# Altium schematic symbol library Schlib1.SchLib: 15 symbols
Pins are listed as number, name and electrical type; pins without a type are passive.

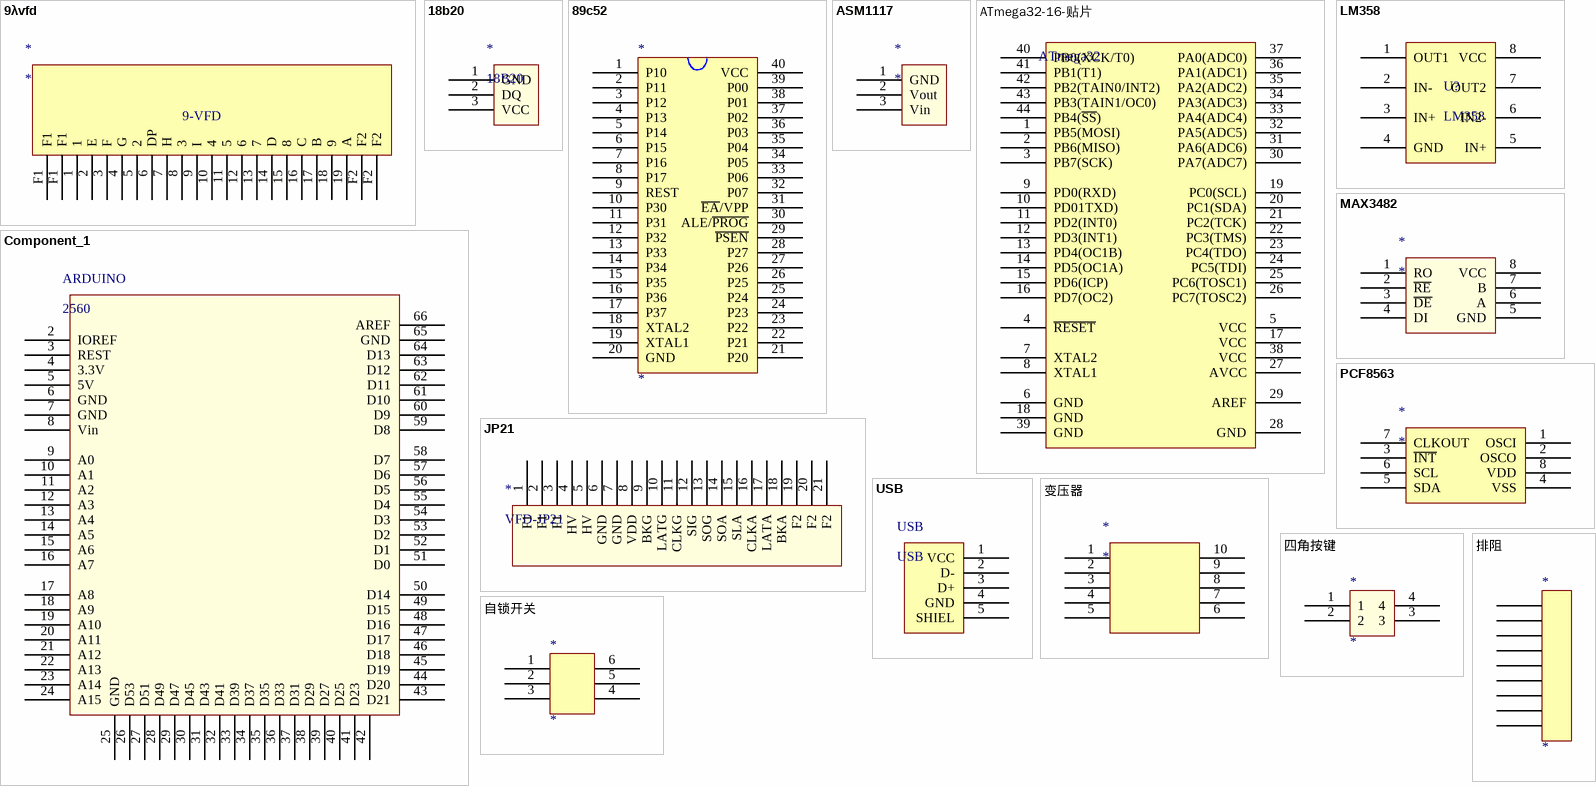
[diagram p0: symbols 9λvfd to 自锁开关]

## 9λvfd
designator *
pins: 1, 2 E, 3 F, 4 G, 5 2, 6 DP, 7 H, 8 3, 9 I, 10 4, 11 5, 12 6, 13 7, 14 D, 15 8, 16 C, 17 B, 18 9, 19 A, F1, F1, F2, F2
text: 9-VFD

## 18b20
designator *, comment 18B20
pins: 1 GND, 2 DQ, 3 VCC

## 89c52
designator *
pins: 1 P10, 2 P11, 3 P12, 4 P13, 5 P14, 6 P15, 7 P16, 8 P17, 9 REST, 10 P30, 11 P31, 12 P32, 13 P33, 14 P34, 15 P35, 16 P36, 17 P37, 18 XTAL2, 19 XTAL1, 20 GND, 21 P20, 22 P21, 23 P22, 24 P23, 25 P24, 26 P25, 27 P26, 28 P27, 29 ~{PSEN}, 30 ALE/~{PROG}, 31 ~{EA}/VPP, 32 P07, 33 P06, 34 P05, 35 P04, 36 P03, 37 P02, 38 P01, 39 P00, 40 VCC

## ASM1117
designator *
pins: 1 GND, 2 Vout, 3 Vin

## ATmega32-16-贴片
designator *, comment ATmega32
pins: 1 PB5(MOSI), 2 PB6(MISO), 3 PB7(SCK), 4 ~{RESET}, 5 VCC, 6 GND, 7 XTAL2, 8 XTAL1, 9 PD0(RXD), 10 PD01TXD), 11 PD2(INT0), 12 PD3(INT1), 13 PD4(OC1B), 14 PD5(OC1A), 15 PD6(ICP), 16 PD7(OC2), 17 VCC, 18 GND, 19 PC0(SCL), 20 PC1(SDA), 21 PC2(TCK), 22 PC3(TMS), 23 PC4(TDO), 24 PC5(TDI), 25 PC6(TOSC1), 26 PC7(TOSC2), 27 AVCC, 28 GND, 29 AREF, 30 PA7(ADC7), 31 PA6(ADC6), 32 PA5(ADC5), 33 PA4(ADC4), 34 PA3(ADC3), 35 PA2(ADC2), 36 PA1(ADC1), 37 PA0(ADC0), 38 VCC, 39 GND, 40 PB0(XCK/T0), 41 PB1(T1), 42 PB2(TAIN0/INT2), 43 PB3(TAIN1/OC0), 44 PB4(~{SS})

## Component_1
designator ARDUINO, comment 2560
pins: 2 IOREF, 3 REST, 4 3.3V, 5 5V, 6 GND, 7 GND, 8 Vin, 9 A0, 10 A1, 11 A2, 12 A3, 13 A4, 14 A5, 15 A6, 16 A7, 17 A8, 18 A9, 19 A10, 20 A11, 21 A12, 22 A13, 23 A14, 24 A15, 25 GND, 26 D53, 27 D51, 28 D49, 29 D47, 30 D45, 31 D43, 32 D41, 33 D39, 34 D37, 35 D35, 36 D33, 37 D31, 38 D29, 39 D27, 40 D25, 41 D23, 42, 43 D21, 44 D20, 45 D19, 46 D18, 47 D17, 48 D16, 49 D15, 50 D14, 51 D0, 52 D1, 53 D2, 54 D3, 55 D4, 56 D5, 57 D6, 58 D7, 59 D8, 60 D9, 61 D10, 62 D11, 63 D12, 64 D13, 65 GND, 66 AREF

## JP21
designator *, comment VFD-JP21
pins: 1 F1, 2 F1, 3 F1, 4 HV, 5 HV, 6 GND, 7 GND, 8 VDD, 9 BKG, 10 LATG, 11 CLKG, 12 SIG, 13 SOG, 14 SOA, 15 SLA, 16 CLKA, 17 LATA, 18 BKA, 19 F2, 20 F2, 21 F2

## LM358
designator U?
pins: 1 OUT1, 2 IN-, 3 IN+, 4 GND, 5 IN+, 6 IN2-, 7 OUT2, 8 VCC

## MAX3482
designator *
pins: 1 RO, 2 ~{RE}, 3 ~{DE}, 4 DI, 5 GND, 6 A, 7 B, 8 VCC

## PCF8563
designator *
pins: 1 OSCI, 2 OSCO, 3 ~{INT}, 4 VSS, 5 SDA, 6 SCL, 7 CLKOUT, 8 VDD

## USB
designator USB
pins: 1 VCC, 2 D-, 3 D+, 4 GND, 5 SHIEL

## 变压器
designator *
pins: 1, 2, 3, 4, 5, 6, 7, 8, 9, 10

## 四角按键
designator *
pins: 1, 2, 3, 4

## 排阻
designator *
pins: 69 VCC, 70 VCC, 71 VCC, 72 VCC, 73 VCC, 74 VCC, 75 VCC, 76 VCC, 77 VCC

## 自锁开关
designator *
pins: 1, 2, 3, 4, 5, 6